# Altium footprint library pic16f616.PCBLIB: 1 footprints
Each footprint in its own frame and in the unit in brackets; x right, y up, seen from the top. Pads: shape width x height; smd on the part's side, far side on the other; paste and mask are expansions set on the pad; w line width, h text height; cw(c..) or ccw(c..) is an arc to the next point about the centre after c.
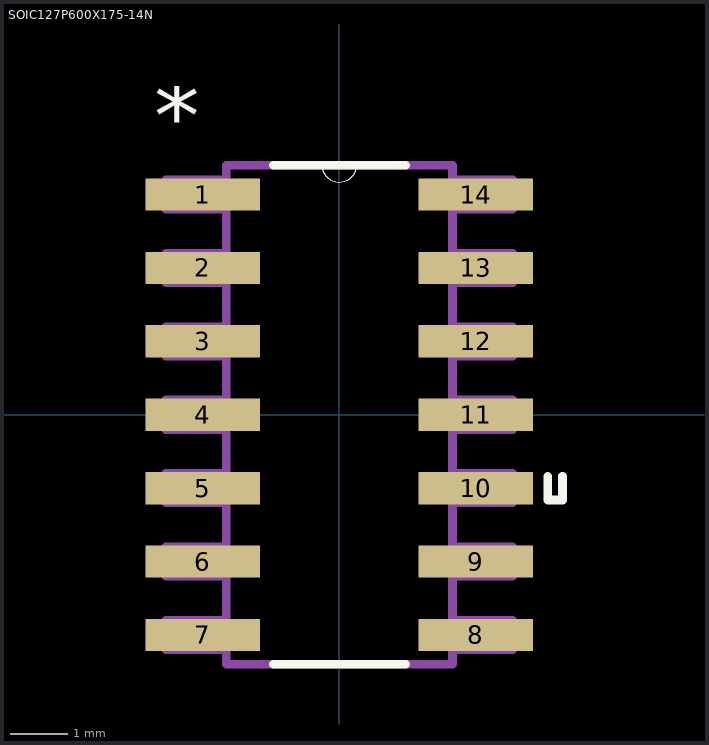
[diagram p0: the footprint, top view; thin cyan lines are the x and y axes]

## SOIC127P600X175-14N [mil]
pads (14):
  rect 78x22 smd: 1(-93,150) 2(-93,100) 3(-93,50) 4(-93,0) 5(-93,-50) 6(-93,-100) 7(-93,-150) 8(93,-150) 9(93,-100) 10(93,-50) 11(93,0) 12(93,50) 13(93,100) 14(93,150)
Top Overlay:
  lines w0: -12,170 ccw(c0,170.5) 12,171
  lines w6: -45,-170 45,-170 ; -45,170 -12,170 45,170 ; 142,-42 142,-58 152,-58 152,-42
  text "*" at -126,167 h77.5
Mechanical 16:
  lines w0: -12,170 ccw(c0,170.5) 12,171
  lines w6: -118,-160 -77,-160 -77,-140 -118,-140 -118,-160 ; -118,-110 -77,-110 -77,-90 -118,-90 -118,-110 ; -118,-60 -77,-60 -77,-40 -118,-40 -118,-60 ; -118,-10 -77,-10 -77,10 -118,10 -118,-10 ; -118,40 -77,40 -77,60 -118,60 -118,40 ; -118,90 -77,90 -77,110 -118,110 -118,90 ; -118,140 -77,140 -77,160 -118,160 -118,140 ; -77,-170 -77,170 -12,170 77,170 77,-170 -77,-170 ; 77,-160 118,-160 118,-140 77,-140 77,-160 ; 77,-110 118,-110 118,-90 77,-90 77,-110 ; 77,-60 118,-60 118,-40 77,-40 77,-60 ; 77,-10 118,-10 118,10 77,10 77,-10 ; 77,40 118,40 118,60 77,60 77,40 ; 77,90 118,90 118,110 77,110 77,90 ; 77,140 118,140 118,160 77,160 77,140
  text "*" at -126,167 h77.5
3D body "SW3DPS-SO-14 (PIC16F684)-DEFAULT.STEP": height 62.56, standoff -0.43, extent -117.92,-171.05 117.91,171.07